# EAGLE library part USR_WIFI-G (library usr_wifi)
USR-WIFI232-G WiFi Module
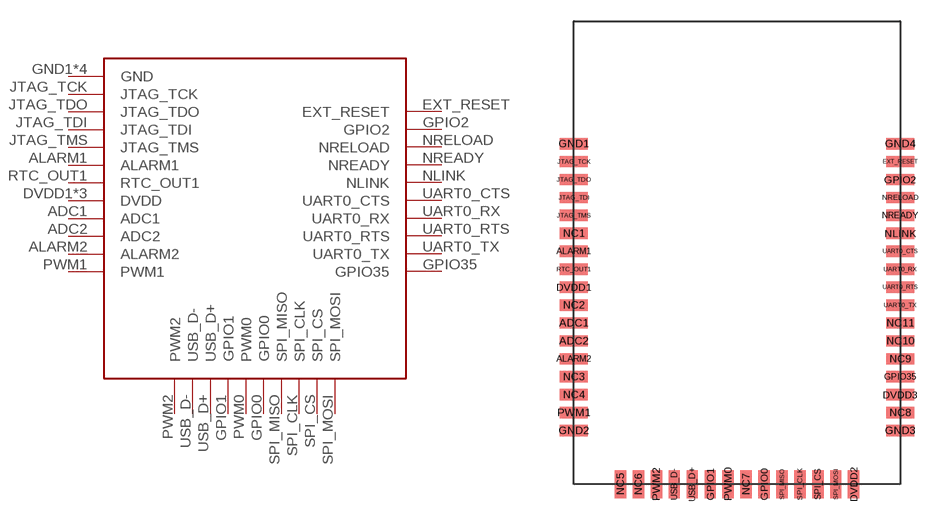
[diagram p0: symbol with the pads of WIFI_MODULE-G; footprint WIFI_MODULE-G]

Designator prefix -

## USR_WIFI-G  [WIFI_MODULE-G]
ADC1  ADC1
ADC2  ADC2
ALARM1  ALARM1
ALARM2  ALARM2
DVDD1  DVDD
DVDD2  DVDD
DVDD3  DVDD
EXT_RESET  EXT_RESET
GND1  GND
GND2  GND
GND3  GND
GND4  GND
GPIO0  GPIO0
GPIO1  GPIO1
GPIO2  GPIO2
GPIO35  GPIO35
JTAG_TCK  JTAG_TCK
JTAG_TDI  JTAG_TDI
JTAG_TDO  JTAG_TDO
JTAG_TMS  JTAG_TMS
NLINK  NLINK
NREADY  NREADY
NRELOAD  NRELOAD
PWM0  PWM0
PWM1  PWM1
PWM2  PWM2
RTC_OUT1  RTC_OUT1
SPI_CLK  SPI_CLK
SPI_CS  SPI_CS
SPI_MISO  SPI_MISO
SPI_MOSI  SPI_MOSI
UART0_CTS  UART0_CTS
UART0_RTS  UART0_RTS
UART0_RX  UART0_RX
UART0_TX  UART0_TX
USB_D+  USB_D+
USB_D-  USB_D-

## Footprint WIFI_MODULE-G (pad centres in mm)
smd 2 x 0.8: ADC1 -11.55,-4.98; ADC2 -11.55,-6.25; ALARM1 -11.55,0.1; ALARM2 -11.55,-7.52; DVDD1 -11.55,-2.44; DVDD3 11.55,-10.06; EXT_RESET 11.55,6.45; GND1 -11.55,7.72; GND2 -11.55,-12.6; GND3 11.55,-12.6; GND4 11.55,7.72; GPIO2 11.55,5.18; GPIO35 11.55,-8.79; JTAG_TCK -11.55,6.45; JTAG_TDI -11.55,3.91; JTAG_TDO -11.55,5.18; JTAG_TMS -11.55,2.64; NC1 -11.55,1.37; NC2 -11.55,-3.71; NC3 -11.55,-8.79; NC4 -11.55,-10.06; NC8 11.55,-11.33; NC9 11.55,-7.52; NC10 11.55,-6.25; NC11 11.55,-4.98; NLINK 11.55,1.37; NREADY 11.55,2.64; NRELOAD 11.55,3.91; PWM1 -11.55,-11.33; RTC_OUT1 -11.55,-1.17; UART0_CTS 11.55,0.1; UART0_RTS 11.55,-2.44; UART0_RX 11.55,-1.17; UART0_TX 11.55,-3.71
smd 0.8 x 2: DVDD2 8.25,-16.4; GPIO0 1.91,-16.4; GPIO1 -1.9,-16.4; NC5 -8.25,-16.4; NC6 -6.98,-16.4; NC7 0.64,-16.4; PWM0 -0.63,-16.4; PWM2 -5.71,-16.4; SPI_CLK 4.45,-16.4; SPI_CS 5.72,-16.4; SPI_MISO 3.18,-16.4; SPI_MOSI 6.99,-16.4; USB_D+ -3.17,-16.4; USB_D- -4.44,-16.4